# EAGLE library part THR-IO2 (library isb_doku)
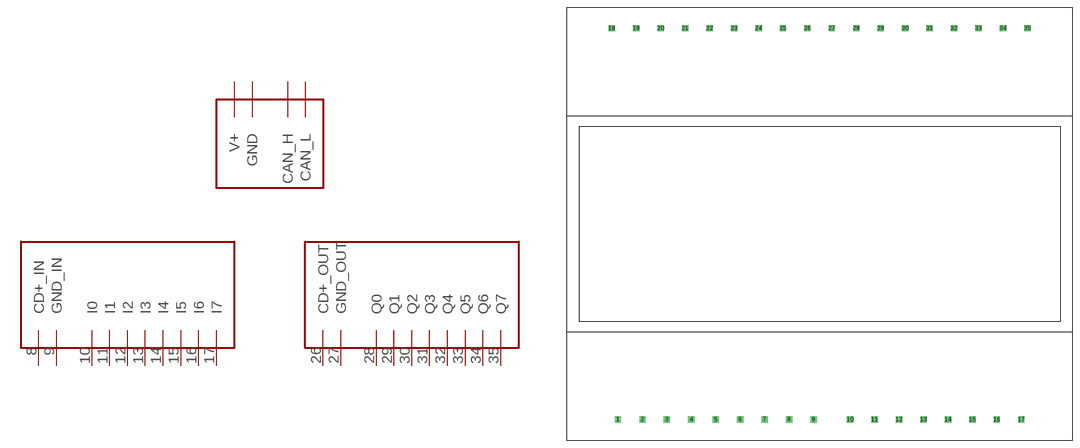
[diagram p1: symbol with the pads of THR_6TE; footprint THR_6TE]

Designator prefix -; gates OUT=THR-OUT IN=THR-IN CAN=THR-CAN2

## THR-IO2  [THR_6TE]
1  CAN:V+  pwr
2  CAN:GND  pwr
3  CAN:CAN_H
4  CAN:CAN_L
8  IN:CD+_IN  pwr
9  IN:GND_IN  pwr
10  IN:I0  in
11  IN:I1  in
12  IN:I2  in
13  IN:I3  in
14  IN:I4  in
15  IN:I5  in
16  IN:I6  in
17  IN:I7  in
26  OUT:CD+_OUT  pwr
27  OUT:GND_OUT  pwr
28  OUT:Q0  out
29  OUT:Q1  out
30  OUT:Q2  out
31  OUT:Q3  out
32  OUT:Q4  out
33  OUT:Q5  out
34  OUT:Q6  out
35  OUT:Q7  out

## Footprint THR_6TE (pad centres in mm)
drill 0.8 square: 1 -41.91,-40.64; 2 -36.83,-40.64; 3 -31.75,-40.64; 4 -26.67,-40.64; 5 -21.59,-40.64; 6 -16.51,-40.64; 7 -11.43,-40.64; 8 -6.35,-40.64; 9 -1.27,-40.64; 10 6.35,-40.64; 11 11.43,-40.64; 12 16.51,-40.64; 13 21.59,-40.64; 14 26.67,-40.64; 15 31.75,-40.64; 16 36.83,-40.64; 17 41.91,-40.64; 18 -43.18,40.64; 19 -38.1,40.64; 20 -33.02,40.64; 21 -27.94,40.64; 22 -22.86,40.64; 23 -17.78,40.64; 24 -12.7,40.64; 25 -7.62,40.64; 26 -2.54,40.64; 27 2.54,40.64; 28 7.62,40.64; 29 12.7,40.64; 30 17.78,40.64; 31 22.86,40.64; 32 27.94,40.64; 33 33.02,40.64; 34 38.1,40.64; 35 43.18,40.64